# Altium schematic symbol library INTERFACE-FT232RL(SSOP28).SchLib: 1 symbol
Pins are listed as number, name and electrical type; pins without a type are passive.

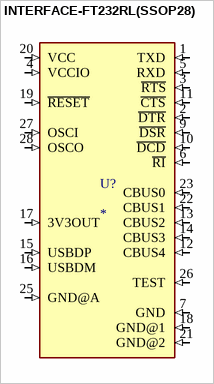
[diagram p0: symbol INTERFACE-FT232RL(SSOP28)]

## INTERFACE-FT232RL(SSOP28)
designator U?
USB Bridge, USB to UART USB 2.0 UART Interface 28-SSOP; MF: FTDI, Future; MP: FT232RL; SnapEDA_Link: https://www.snapeda.com/parts/FT232RL/FTDI%252C+Future+Technology+Devices+International+Ltd/view-part/?ref=snap; Package: SSOP-28 FTDI; Value: *; Check_prices: https://www.snapeda.com/parts/FT232RL/FTDI%252C+Future+Technology+Devices+International+Ltd/view-part/?ref=eda
footprint SSOP28-0.65-10.2X5.2MM
pins: 1 TXD (in), 2 ~{DTR} (in), 3 ~{RTS} (in), 4 VCCIO (in), 5 RXD (in), 6 ~{RI} (in), 7 GND (in), 9 ~{DSR} (in), 10 ~{DCD} (in), 11 ~{CTS} (in), 12 CBUS4 (in), 13 CBUS2 (in), 14 CBUS3 (in), 15 USBDP (in), 16 USBDM (in), 17 3V3OUT (in), 18 GND@1 (in), 19 ~{RESET} (in), 20 VCC (in), 21 GND@2 (in), 22 CBUS1 (in), 23 CBUS0 (in), 25 GND@A (in), 26 TEST (in), 27 OSCI (in), 28 OSCO (in)